# Altium schematic symbol library kmilo17pet-LT_ChargePump.SchLib: 599 symbols (part 24 of 29)
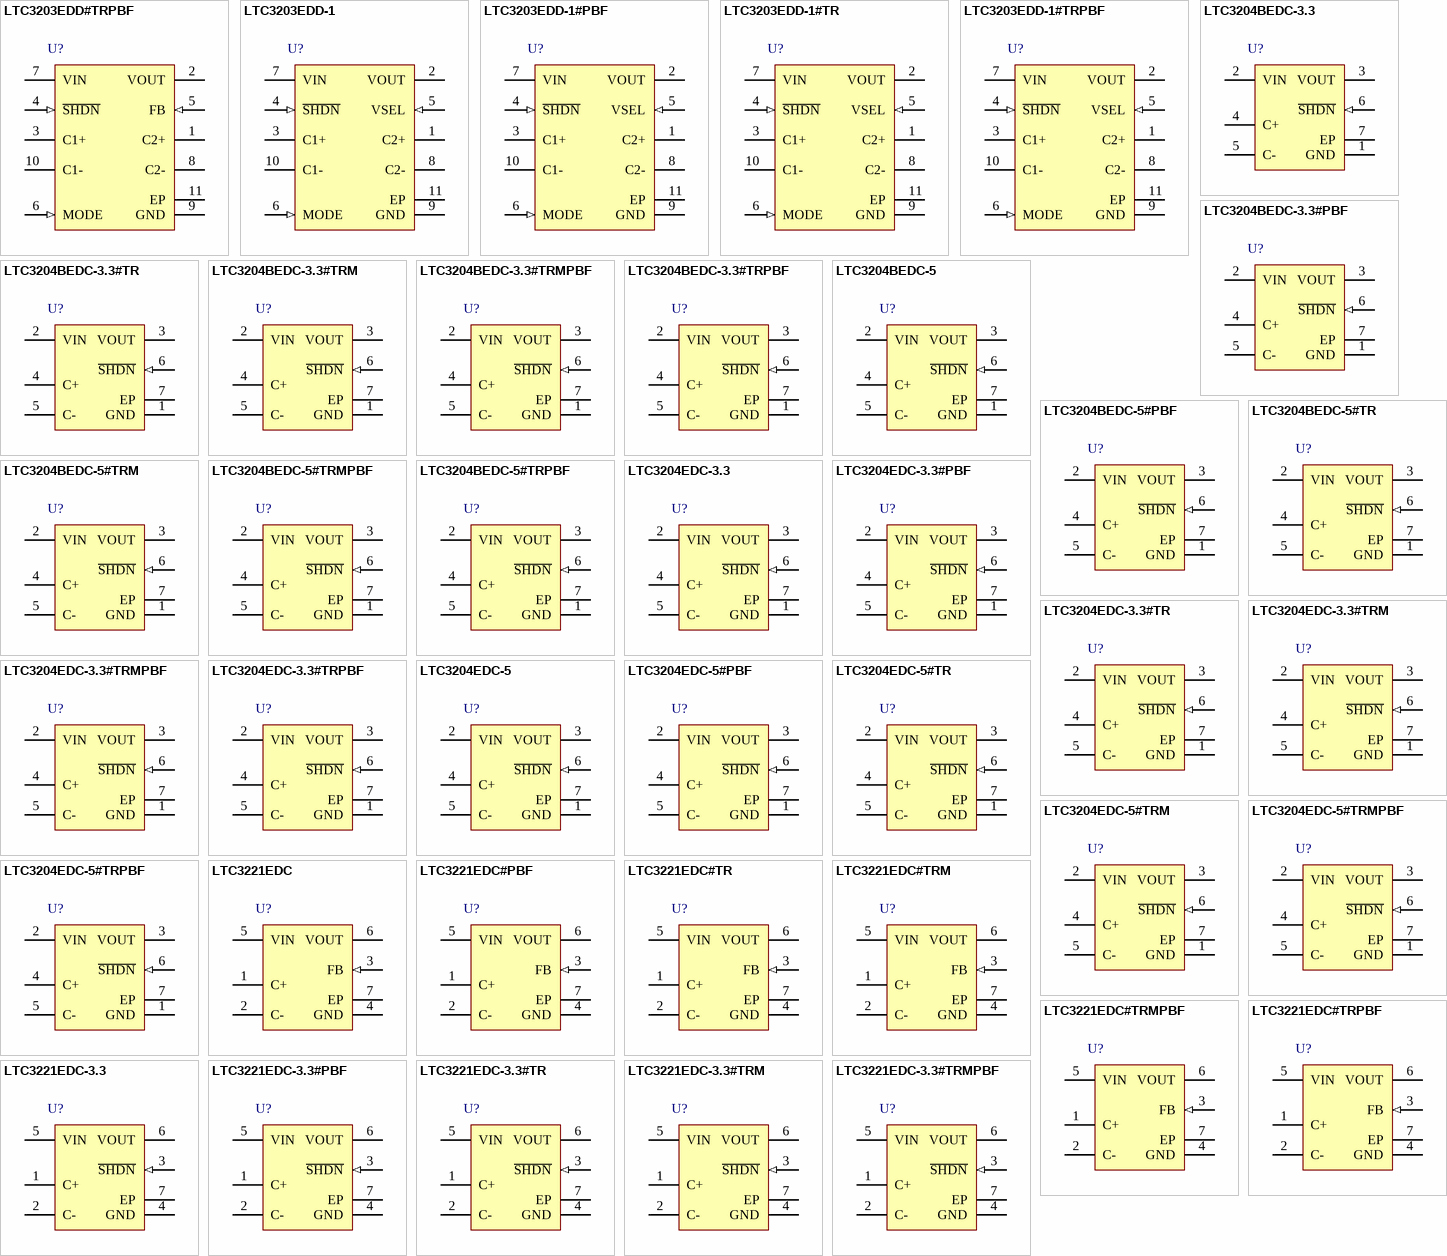
[diagram p39: symbols LTC3203EDD#TRPBF to LTC3221EDC-3.3#TRMPBF]

## LTC3204BEDC-5#TRMPBF
designator U?
Low Noise Regulated Charge Pump, 2.7 to 5.5 V Vin, 5 V Vout, 6-pin SON (DC6-6), -40 to 85 degC, Pb-Free, Mini Tape and Reel; Manufacturer: Linear Technology; PartNumber: LTC3204BEDC-5#TRMPBF; Frequency(kHz): 1200; Isupply(mA): 0.048; Max Iout(mA): 150; Vin Max(V): 5.5; Vin Min(V): 2.7; Voutput: 5V; PackageVersion: Rev. B, 06/2010; PackageReference: DC6-6; PackageDescription: 6-Pin Plastic DFN, Body 2 x 2 mm, Pitch 0.5 mm; Supplier 1: Digi-Key; Supplier Part Number 1: LTC3204BEDC-5#TRMPBFTR-ND; Supplier 2: Digi-Key; Supplier Part Number 2: LTC3204BEDC-5#TRMPBFCT-ND; Supplier 3: Digi-Key; Supplier Part Number 3: LTC3204BEDC-5#TRMPBFDKR-ND; Supplier 4: Farnell; Supplier Part Number 4: 1663892; Supplier 5: Farnell; Supplier Part Number 5: 1663892RL; Supplier 6: Newark; Supplier Part Number 6: 56M7359; Packing: Mini Tape and Reel; RoHS: TRUE; Mounting Technology: Surface Mount; Code_JEDEC: MO-229; ComponentLink1Description: Manufacturer URL; ComponentLink1URL: http://www.linear.com/; ComponentLink2Description: Datasheet; ComponentLink2URL: http://cds.linear.com/docs/en/datasheet/3204fa.pdf; ComponentLink3Description: Package Specification; ComponentLink3URL: http://cds.linear.com/docs/en/packaging/DFN_6_05-08-1703.pdf
footprint LT-DC6-6_V (SON, 6-Leads, Body 2x2mm, Pitch 0.5mm, Thermal Pad 1.42x0.61mm)
pins: 1 GND (power) "Ground.", 2 VIN (power) "Input Supply Voltage.", 3 VOUT (power) "Regulated Output Voltage.", 4 C+ "Flying Capacitor Positive Terminal.", 5 C- "Flying Capacitor Negative Terminal.", 6 ~{SHDN} (in), 7 EP (power) "Ground."

## LTC3204BEDC-5#TRPBF
designator U?
Low Noise Regulated Charge Pump, 2.7 to 5.5 V Vin, 5 V Vout, 6-pin SON (DC6-6), -40 to 85 degC, Pb-Free, Tape and Reel; Manufacturer: Linear Technology; PartNumber: LTC3204BEDC-5#TRPBF; Frequency(kHz): 1200; Isupply(mA): 0.048; Max Iout(mA): 150; Vin Max(V): 5.5; Vin Min(V): 2.7; Voutput: 5V; PackageVersion: Rev. B, 06/2010; PackageReference: DC6-6; PackageDescription: 6-Pin Plastic DFN, Body 2 x 2 mm, Pitch 0.5 mm; Supplier 1: Digi-Key; Supplier Part Number 1: LTC3204BEDC-5#TRPBF-ND; Supplier 2: Newark; Supplier Part Number 2: 56M7360; Packing: Tape and Reel; RoHS: TRUE; Mounting Technology: Surface Mount; Code_JEDEC: MO-229; ComponentLink1Description: Manufacturer URL; ComponentLink1URL: http://www.linear.com/; ComponentLink2Description: Datasheet; ComponentLink2URL: http://cds.linear.com/docs/en/datasheet/3204fa.pdf; ComponentLink3Description: Package Specification; ComponentLink3URL: http://cds.linear.com/docs/en/packaging/DFN_6_05-08-1703.pdf
footprint LT-DC6-6_V (SON, 6-Leads, Body 2x2mm, Pitch 0.5mm, Thermal Pad 1.42x0.61mm)
pins: 1 GND (power) "Ground.", 2 VIN (power) "Input Supply Voltage.", 3 VOUT (power) "Regulated Output Voltage.", 4 C+ "Flying Capacitor Positive Terminal.", 5 C- "Flying Capacitor Negative Terminal.", 6 ~{SHDN} (in), 7 EP (power) "Ground."

## LTC3204EDC-3.3
designator U?
Low Noise Regulated Charge Pump, 1.8 to 4.5 V Vin, 3.3 V Vout, 6-pin SON (DC6-6), -40 to 85 degC; Manufacturer: Linear Technology; PartNumber: LTC3204EDC-3.3; Frequency(kHz): 1200; Isupply(mA): 0.048; Max Iout(mA): 50; Vin Max(V): 4.5; Vin Min(V): 1.8; Voutput: 3.3V; PackageVersion: Rev. B, 06/2010; PackageReference: DC6-6; PackageDescription: 6-Pin Plastic DFN, Body 2 x 2 mm, Pitch 0.5 mm; RoHS: FALSE; Mounting Technology: Surface Mount; Code_JEDEC: MO-229; ComponentLink1Description: Manufacturer URL; ComponentLink1URL: http://www.linear.com/; ComponentLink2Description: Datasheet; ComponentLink2URL: http://cds.linear.com/docs/en/datasheet/3204fa.pdf; ComponentLink3Description: Package Specification; ComponentLink3URL: http://cds.linear.com/docs/en/packaging/DFN_6_05-08-1703.pdf
footprint LT-DC6-6_V (SON, 6-Leads, Body 2x2mm, Pitch 0.5mm, Thermal Pad 1.42x0.61mm)
pins: 1 GND (power) "Ground.", 2 VIN (power) "Input Supply Voltage.", 3 VOUT (power) "Regulated Output Voltage.", 4 C+ "Flying Capacitor Positive Terminal.", 5 C- "Flying Capacitor Negative Terminal.", 6 ~{SHDN} (in), 7 EP (power) "Ground."

## LTC3204EDC-3.3#PBF
designator U?
Low Noise Regulated Charge Pump, 1.8 to 4.5 V Vin, 3.3 V Vout, 6-pin SON (DC6-6), -40 to 85 degC, Pb-Free; Manufacturer: Linear Technology; PartNumber: LTC3204EDC-3.3#PBF; Frequency(kHz): 1200; Isupply(mA): 0.048; Max Iout(mA): 50; Vin Max(V): 4.5; Vin Min(V): 1.8; Voutput: 3.3V; PackageVersion: Rev. B, 06/2010; PackageReference: DC6-6; PackageDescription: 6-Pin Plastic DFN, Body 2 x 2 mm, Pitch 0.5 mm; Supplier 1: Newark; Supplier Part Number 1: 78T3160; RoHS: TRUE; Mounting Technology: Surface Mount; Code_JEDEC: MO-229; ComponentLink1Description: Manufacturer URL; ComponentLink1URL: http://www.linear.com/; ComponentLink2Description: Datasheet; ComponentLink2URL: http://cds.linear.com/docs/en/datasheet/3204fa.pdf; ComponentLink3Description: Package Specification; ComponentLink3URL: http://cds.linear.com/docs/en/packaging/DFN_6_05-08-1703.pdf
footprint LT-DC6-6_V (SON, 6-Leads, Body 2x2mm, Pitch 0.5mm, Thermal Pad 1.42x0.61mm)
pins: 1 GND (power) "Ground.", 2 VIN (power) "Input Supply Voltage.", 3 VOUT (power) "Regulated Output Voltage.", 4 C+ "Flying Capacitor Positive Terminal.", 5 C- "Flying Capacitor Negative Terminal.", 6 ~{SHDN} (in), 7 EP (power) "Ground."

## LTC3204EDC-3.3#TR
designator U?
Low Noise Regulated Charge Pump, 1.8 to 4.5 V Vin, 3.3 V Vout, 6-pin SON (DC6-6), -40 to 85 degC, Tape and Reel; Manufacturer: Linear Technology; PartNumber: LTC3204EDC-3.3#TR; Frequency(kHz): 1200; Isupply(mA): 0.048; Max Iout(mA): 50; Vin Max(V): 4.5; Vin Min(V): 1.8; Voutput: 3.3V; PackageVersion: Rev. B, 06/2010; PackageReference: DC6-6; PackageDescription: 6-Pin Plastic DFN, Body 2 x 2 mm, Pitch 0.5 mm; Packing: Tape and Reel; RoHS: FALSE; Mounting Technology: Surface Mount; Code_JEDEC: MO-229; ComponentLink1Description: Manufacturer URL; ComponentLink1URL: http://www.linear.com/; ComponentLink2Description: Datasheet; ComponentLink2URL: http://cds.linear.com/docs/en/datasheet/3204fa.pdf; ComponentLink3Description: Package Specification; ComponentLink3URL: http://cds.linear.com/docs/en/packaging/DFN_6_05-08-1703.pdf
footprint LT-DC6-6_V (SON, 6-Leads, Body 2x2mm, Pitch 0.5mm, Thermal Pad 1.42x0.61mm)
pins: 1 GND (power) "Ground.", 2 VIN (power) "Input Supply Voltage.", 3 VOUT (power) "Regulated Output Voltage.", 4 C+ "Flying Capacitor Positive Terminal.", 5 C- "Flying Capacitor Negative Terminal.", 6 ~{SHDN} (in), 7 EP (power) "Ground."

## LTC3204EDC-3.3#TRM
designator U?
Low Noise Regulated Charge Pump, 1.8 to 4.5 V Vin, 3.3 V Vout, 6-pin SON (DC6-6), -40 to 85 degC, Mini Tape and Reel; Manufacturer: Linear Technology; PartNumber: LTC3204EDC-3.3#TRM; Frequency(kHz): 1200; Isupply(mA): 0.048; Max Iout(mA): 50; Vin Max(V): 4.5; Vin Min(V): 1.8; Voutput: 3.3V; PackageVersion: Rev. B, 06/2010; PackageReference: DC6-6; PackageDescription: 6-Pin Plastic DFN, Body 2 x 2 mm, Pitch 0.5 mm; Packing: Mini Tape and Reel; RoHS: FALSE; Mounting Technology: Surface Mount; Code_JEDEC: MO-229; ComponentLink1Description: Manufacturer URL; ComponentLink1URL: http://www.linear.com/; ComponentLink2Description: Datasheet; ComponentLink2URL: http://cds.linear.com/docs/en/datasheet/3204fa.pdf; ComponentLink3Description: Package Specification; ComponentLink3URL: http://cds.linear.com/docs/en/packaging/DFN_6_05-08-1703.pdf
footprint LT-DC6-6_V (SON, 6-Leads, Body 2x2mm, Pitch 0.5mm, Thermal Pad 1.42x0.61mm)
pins: 1 GND (power) "Ground.", 2 VIN (power) "Input Supply Voltage.", 3 VOUT (power) "Regulated Output Voltage.", 4 C+ "Flying Capacitor Positive Terminal.", 5 C- "Flying Capacitor Negative Terminal.", 6 ~{SHDN} (in), 7 EP (power) "Ground."

## LTC3204EDC-3.3#TRMPBF
designator U?
Low Noise Regulated Charge Pump, 1.8 to 4.5 V Vin, 3.3 V Vout, 6-pin SON (DC6-6), -40 to 85 degC, Pb-Free, Mini Tape and Reel; Manufacturer: Linear Technology; PartNumber: LTC3204EDC-3.3#TRMPBF; Frequency(kHz): 1200; Isupply(mA): 0.048; Max Iout(mA): 50; Vin Max(V): 4.5; Vin Min(V): 1.8; Voutput: 3.3V; PackageVersion: Rev. B, 06/2010; PackageReference: DC6-6; PackageDescription: 6-Pin Plastic DFN, Body 2 x 2 mm, Pitch 0.5 mm; Supplier 1: Digi-Key; Supplier Part Number 1: LTC3204EDC-3.3#TRMPBF-ND; Packing: Mini Tape and Reel; RoHS: TRUE; Mounting Technology: Surface Mount; Code_JEDEC: MO-229; ComponentLink1Description: Manufacturer URL; ComponentLink1URL: http://www.linear.com/; ComponentLink2Description: Datasheet; ComponentLink2URL: http://cds.linear.com/docs/en/datasheet/3204fa.pdf; ComponentLink3Description: Package Specification; ComponentLink3URL: http://cds.linear.com/docs/en/packaging/DFN_6_05-08-1703.pdf
footprint LT-DC6-6_V (SON, 6-Leads, Body 2x2mm, Pitch 0.5mm, Thermal Pad 1.42x0.61mm)
pins: 1 GND (power) "Ground.", 2 VIN (power) "Input Supply Voltage.", 3 VOUT (power) "Regulated Output Voltage.", 4 C+ "Flying Capacitor Positive Terminal.", 5 C- "Flying Capacitor Negative Terminal.", 6 ~{SHDN} (in), 7 EP (power) "Ground."

## LTC3204EDC-3.3#TRPBF
designator U?
Low Noise Regulated Charge Pump, 1.8 to 4.5 V Vin, 3.3 V Vout, 6-pin SON (DC6-6), -40 to 85 degC, Pb-Free, Tape and Reel; Manufacturer: Linear Technology; PartNumber: LTC3204EDC-3.3#TRPBF; Frequency(kHz): 1200; Isupply(mA): 0.048; Max Iout(mA): 50; Vin Max(V): 4.5; Vin Min(V): 1.8; Voutput: 3.3V; PackageVersion: Rev. B, 06/2010; PackageReference: DC6-6; PackageDescription: 6-Pin Plastic DFN, Body 2 x 2 mm, Pitch 0.5 mm; Supplier 1: Digi-Key; Supplier Part Number 1: LTC3204EDC-3.3#TRPBF-ND; Packing: Tape and Reel; RoHS: TRUE; Mounting Technology: Surface Mount; Code_JEDEC: MO-229; ComponentLink1Description: Manufacturer URL; ComponentLink1URL: http://www.linear.com/; ComponentLink2Description: Datasheet; ComponentLink2URL: http://cds.linear.com/docs/en/datasheet/3204fa.pdf; ComponentLink3Description: Package Specification; ComponentLink3URL: http://cds.linear.com/docs/en/packaging/DFN_6_05-08-1703.pdf
footprint LT-DC6-6_V (SON, 6-Leads, Body 2x2mm, Pitch 0.5mm, Thermal Pad 1.42x0.61mm)
pins: 1 GND (power) "Ground.", 2 VIN (power) "Input Supply Voltage.", 3 VOUT (power) "Regulated Output Voltage.", 4 C+ "Flying Capacitor Positive Terminal.", 5 C- "Flying Capacitor Negative Terminal.", 6 ~{SHDN} (in), 7 EP (power) "Ground."

## LTC3204EDC-5
designator U?
Low Noise Regulated Charge Pump, 2.7 to 5.5 V Vin, 5 V Vout, 6-pin SON (DC6-6), -40 to 85 degC; Manufacturer: Linear Technology; PartNumber: LTC3204EDC-5; Frequency(kHz): 1200; Isupply(mA): 0.048; Max Iout(mA): 150; Vin Max(V): 5.5; Vin Min(V): 2.7; Voutput: 5V; PackageVersion: Rev. B, 06/2010; PackageReference: DC6-6; PackageDescription: 6-Pin Plastic DFN, Body 2 x 2 mm, Pitch 0.5 mm; RoHS: FALSE; Mounting Technology: Surface Mount; Code_JEDEC: MO-229; ComponentLink1Description: Manufacturer URL; ComponentLink1URL: http://www.linear.com/; ComponentLink2Description: Datasheet; ComponentLink2URL: http://cds.linear.com/docs/en/datasheet/3204fa.pdf; ComponentLink3Description: Package Specification; ComponentLink3URL: http://cds.linear.com/docs/en/packaging/DFN_6_05-08-1703.pdf
footprint LT-DC6-6_V (SON, 6-Leads, Body 2x2mm, Pitch 0.5mm, Thermal Pad 1.42x0.61mm)
pins: 1 GND (power) "Ground.", 2 VIN (power) "Input Supply Voltage.", 3 VOUT (power) "Regulated Output Voltage.", 4 C+ "Flying Capacitor Positive Terminal.", 5 C- "Flying Capacitor Negative Terminal.", 6 ~{SHDN} (in), 7 EP (power) "Ground."

## LTC3204EDC-5#PBF
designator U?
Low Noise Regulated Charge Pump, 2.7 to 5.5 V Vin, 5 V Vout, 6-pin SON (DC6-6), -40 to 85 degC, Pb-Free; Manufacturer: Linear Technology; PartNumber: LTC3204EDC-5#PBF; Frequency(kHz): 1200; Isupply(mA): 0.048; Max Iout(mA): 150; Vin Max(V): 5.5; Vin Min(V): 2.7; Voutput: 5V; PackageVersion: Rev. B, 06/2010; PackageReference: DC6-6; PackageDescription: 6-Pin Plastic DFN, Body 2 x 2 mm, Pitch 0.5 mm; Supplier 1: Farnell; Supplier Part Number 1: 2295023; Supplier 2: Newark; Supplier Part Number 2: 78T3161; RoHS: TRUE; Mounting Technology: Surface Mount; Code_JEDEC: MO-229; ComponentLink1Description: Manufacturer URL; ComponentLink1URL: http://www.linear.com/; ComponentLink2Description: Datasheet; ComponentLink2URL: http://cds.linear.com/docs/en/datasheet/3204fa.pdf; ComponentLink3Description: Package Specification; ComponentLink3URL: http://cds.linear.com/docs/en/packaging/DFN_6_05-08-1703.pdf
footprint LT-DC6-6_V (SON, 6-Leads, Body 2x2mm, Pitch 0.5mm, Thermal Pad 1.42x0.61mm)
pins: 1 GND (power) "Ground.", 2 VIN (power) "Input Supply Voltage.", 3 VOUT (power) "Regulated Output Voltage.", 4 C+ "Flying Capacitor Positive Terminal.", 5 C- "Flying Capacitor Negative Terminal.", 6 ~{SHDN} (in), 7 EP (power) "Ground."

## LTC3204EDC-5#TR
designator U?
Low Noise Regulated Charge Pump, 2.7 to 5.5 V Vin, 5 V Vout, 6-pin SON (DC6-6), -40 to 85 degC, Tape and Reel; Manufacturer: Linear Technology; PartNumber: LTC3204EDC-5#TR; Frequency(kHz): 1200; Isupply(mA): 0.048; Max Iout(mA): 150; Vin Max(V): 5.5; Vin Min(V): 2.7; Voutput: 5V; PackageVersion: Rev. B, 06/2010; PackageReference: DC6-6; PackageDescription: 6-Pin Plastic DFN, Body 2 x 2 mm, Pitch 0.5 mm; Packing: Tape and Reel; RoHS: FALSE; Mounting Technology: Surface Mount; Code_JEDEC: MO-229; ComponentLink1Description: Manufacturer URL; ComponentLink1URL: http://www.linear.com/; ComponentLink2Description: Datasheet; ComponentLink2URL: http://cds.linear.com/docs/en/datasheet/3204fa.pdf; ComponentLink3Description: Package Specification; ComponentLink3URL: http://cds.linear.com/docs/en/packaging/DFN_6_05-08-1703.pdf
footprint LT-DC6-6_V (SON, 6-Leads, Body 2x2mm, Pitch 0.5mm, Thermal Pad 1.42x0.61mm)
pins: 1 GND (power) "Ground.", 2 VIN (power) "Input Supply Voltage.", 3 VOUT (power) "Regulated Output Voltage.", 4 C+ "Flying Capacitor Positive Terminal.", 5 C- "Flying Capacitor Negative Terminal.", 6 ~{SHDN} (in), 7 EP (power) "Ground."

## LTC3204EDC-5#TRM
designator U?
Low Noise Regulated Charge Pump, 2.7 to 5.5 V Vin, 5 V Vout, 6-pin SON (DC6-6), -40 to 85 degC, Mini Tape and Reel; Manufacturer: Linear Technology; PartNumber: LTC3204EDC-5#TRM; Frequency(kHz): 1200; Isupply(mA): 0.048; Max Iout(mA): 150; Vin Max(V): 5.5; Vin Min(V): 2.7; Voutput: 5V; PackageVersion: Rev. B, 06/2010; PackageReference: DC6-6; PackageDescription: 6-Pin Plastic DFN, Body 2 x 2 mm, Pitch 0.5 mm; Packing: Mini Tape and Reel; RoHS: FALSE; Mounting Technology: Surface Mount; Code_JEDEC: MO-229; ComponentLink1Description: Manufacturer URL; ComponentLink1URL: http://www.linear.com/; ComponentLink2Description: Datasheet; ComponentLink2URL: http://cds.linear.com/docs/en/datasheet/3204fa.pdf; ComponentLink3Description: Package Specification; ComponentLink3URL: http://cds.linear.com/docs/en/packaging/DFN_6_05-08-1703.pdf
footprint LT-DC6-6_V (SON, 6-Leads, Body 2x2mm, Pitch 0.5mm, Thermal Pad 1.42x0.61mm)
pins: 1 GND (power) "Ground.", 2 VIN (power) "Input Supply Voltage.", 3 VOUT (power) "Regulated Output Voltage.", 4 C+ "Flying Capacitor Positive Terminal.", 5 C- "Flying Capacitor Negative Terminal.", 6 ~{SHDN} (in), 7 EP (power) "Ground."

## LTC3204EDC-5#TRMPBF
designator U?
Low Noise Regulated Charge Pump, 2.7 to 5.5 V Vin, 5 V Vout, 6-pin SON (DC6-6), -40 to 85 degC, Pb-Free, Mini Tape and Reel; Manufacturer: Linear Technology; PartNumber: LTC3204EDC-5#TRMPBF; Frequency(kHz): 1200; Isupply(mA): 0.048; Max Iout(mA): 150; Vin Max(V): 5.5; Vin Min(V): 2.7; Voutput: 5V; PackageVersion: Rev. B, 06/2010; PackageReference: DC6-6; PackageDescription: 6-Pin Plastic DFN, Body 2 x 2 mm, Pitch 0.5 mm; Supplier 1: Digi-Key; Supplier Part Number 1: LTC3204EDC-5#TRMPBFTR-ND; Supplier 2: Digi-Key; Supplier Part Number 2: LTC3204EDC-5#TRMPBFCT-ND; Supplier 3: Digi-Key; Supplier Part Number 3: LTC3204EDC-5#TRMPBFDKR-ND; Packing: Mini Tape and Reel; RoHS: TRUE; Mounting Technology: Surface Mount; Code_JEDEC: MO-229; ComponentLink1Description: Manufacturer URL; ComponentLink1URL: http://www.linear.com/; ComponentLink2Description: Datasheet; ComponentLink2URL: http://cds.linear.com/docs/en/datasheet/3204fa.pdf; ComponentLink3Description: Package Specification; ComponentLink3URL: http://cds.linear.com/docs/en/packaging/DFN_6_05-08-1703.pdf
footprint LT-DC6-6_V (SON, 6-Leads, Body 2x2mm, Pitch 0.5mm, Thermal Pad 1.42x0.61mm)
pins: 1 GND (power) "Ground.", 2 VIN (power) "Input Supply Voltage.", 3 VOUT (power) "Regulated Output Voltage.", 4 C+ "Flying Capacitor Positive Terminal.", 5 C- "Flying Capacitor Negative Terminal.", 6 ~{SHDN} (in), 7 EP (power) "Ground."

## LTC3204EDC-5#TRPBF
designator U?
Low Noise Regulated Charge Pump, 2.7 to 5.5 V Vin, 5 V Vout, 6-pin SON (DC6-6), -40 to 85 degC, Pb-Free, Tape and Reel; Manufacturer: Linear Technology; PartNumber: LTC3204EDC-5#TRPBF; Frequency(kHz): 1200; Isupply(mA): 0.048; Max Iout(mA): 150; Vin Max(V): 5.5; Vin Min(V): 2.7; Voutput: 5V; PackageVersion: Rev. B, 06/2010; PackageReference: DC6-6; PackageDescription: 6-Pin Plastic DFN, Body 2 x 2 mm, Pitch 0.5 mm; Supplier 1: Digi-Key; Supplier Part Number 1: LTC3204EDC-5#TRPBF-ND; Packing: Tape and Reel; RoHS: TRUE; Mounting Technology: Surface Mount; Code_JEDEC: MO-229; ComponentLink1Description: Manufacturer URL; ComponentLink1URL: http://www.linear.com/; ComponentLink2Description: Datasheet; ComponentLink2URL: http://cds.linear.com/docs/en/datasheet/3204fa.pdf; ComponentLink3Description: Package Specification; ComponentLink3URL: http://cds.linear.com/docs/en/packaging/DFN_6_05-08-1703.pdf
footprint LT-DC6-6_V (SON, 6-Leads, Body 2x2mm, Pitch 0.5mm, Thermal Pad 1.42x0.61mm)
pins: 1 GND (power) "Ground.", 2 VIN (power) "Input Supply Voltage.", 3 VOUT (power) "Regulated Output Voltage.", 4 C+ "Flying Capacitor Positive Terminal.", 5 C- "Flying Capacitor Negative Terminal.", 6 ~{SHDN} (in), 7 EP (power) "Ground."

## LTC3221EDC
designator U?
Micropower, Regulated Charge Pump, 1.8 to 5.5 V Vin, Adjustable Vout, 6-pin SON (DC6-6), -40 to 85 degC; Manufacturer: Linear Technology; PartNumber: LTC3221EDC; Frequency(kHz): 600; Isupply(mA): 0.005; Max Iout(mA): 60; Vin Max(V): 5.5; Vin Min(V): 1.8; Voutput: Adj; PackageVersion: Rev. B, 06/2010; PackageReference: DC6-6; PackageDescription: 6-Pin Plastic DFN, Body 2 x 2 mm, Pitch 0.5 mm; RoHS: FALSE; Mounting Technology: Surface Mount; Code_JEDEC: MO-229; ComponentLink1Description: Manufacturer URL; ComponentLink1URL: http://www.linear.com/; ComponentLink2Description: Datasheet; ComponentLink2URL: http://cds.linear.com/docs/en/datasheet/3221f.pdf; ComponentLink3Description: Package Specification; ComponentLink3URL: http://cds.linear.com/docs/en/packaging/DFN_6_05-08-1703.pdf
footprint LT-DC6-6_V (SON, 6-Leads, Body 2x2mm, Pitch 0.5mm, Thermal Pad 1.42x0.61mm)
pins: 1 C+ "Flying Capacitor Positive Terminal.", 2 C- "Flying Capacitor Negative Terminal.", 3 FB (in) "Feedback. The voltage on this pin is compared to the internal reference voltage (1.23V) by the error comparator to keep the output in regulation. An external resistor divider is required between VOUT and FB to program the (See Datasheet)", 4 GND (power) "Ground. Should be tied to a ground plane for best performance.", 5 VIN (power) "Input Supply Voltage. VIN should be bypassed with a 2.2uF low ESR capacitor.", 6 VOUT (power) "Regulated Output Voltage. For best performance, VOUT should be bypassed with a 2.2uF or higher low ESR capacitor as close as possible to the pin.", 7 EP (power) "Ground. The exposed pad must be soldered to PCB ground to provide electrical contact and optimum thermal performance."

## LTC3221EDC#PBF
designator U?
Micropower, Regulated Charge Pump, 1.8 to 5.5 V Vin, Adjustable Vout, 6-pin SON (DC6-6), -40 to 85 degC, Pb-Free; Manufacturer: Linear Technology; PartNumber: LTC3221EDC#PBF; Frequency(kHz): 600; Isupply(mA): 0.005; Max Iout(mA): 60; Vin Max(V): 5.5; Vin Min(V): 1.8; Voutput: Adj; PackageVersion: Rev. B, 06/2010; PackageReference: DC6-6; PackageDescription: 6-Pin Plastic DFN, Body 2 x 2 mm, Pitch 0.5 mm; Supplier 1: Newark; Supplier Part Number 1: 58T8247; RoHS: TRUE; Mounting Technology: Surface Mount; Code_JEDEC: MO-229; ComponentLink1Description: Manufacturer URL; ComponentLink1URL: http://www.linear.com/; ComponentLink2Description: Datasheet; ComponentLink2URL: http://cds.linear.com/docs/en/datasheet/3221f.pdf; ComponentLink3Description: Package Specification; ComponentLink3URL: http://cds.linear.com/docs/en/packaging/DFN_6_05-08-1703.pdf
footprint LT-DC6-6_V (SON, 6-Leads, Body 2x2mm, Pitch 0.5mm, Thermal Pad 1.42x0.61mm)
pins: 1 C+ "Flying Capacitor Positive Terminal.", 2 C- "Flying Capacitor Negative Terminal.", 3 FB (in) "Feedback. The voltage on this pin is compared to the internal reference voltage (1.23V) by the error comparator to keep the output in regulation. An external resistor divider is required between VOUT and FB to program the (See Datasheet)", 4 GND (power) "Ground. Should be tied to a ground plane for best performance.", 5 VIN (power) "Input Supply Voltage. VIN should be bypassed with a 2.2uF low ESR capacitor.", 6 VOUT (power) "Regulated Output Voltage. For best performance, VOUT should be bypassed with a 2.2uF or higher low ESR capacitor as close as possible to the pin.", 7 EP (power) "Ground. The exposed pad must be soldered to PCB ground to provide electrical contact and optimum thermal performance."

## LTC3221EDC#TR
designator U?
Micropower, Regulated Charge Pump, 1.8 to 5.5 V Vin, Adjustable Vout, 6-pin SON (DC6-6), -40 to 85 degC, Tape and Reel; Manufacturer: Linear Technology; PartNumber: LTC3221EDC#TR; Frequency(kHz): 600; Isupply(mA): 0.005; Max Iout(mA): 60; Vin Max(V): 5.5; Vin Min(V): 1.8; Voutput: Adj; PackageVersion: Rev. B, 06/2010; PackageReference: DC6-6; PackageDescription: 6-Pin Plastic DFN, Body 2 x 2 mm, Pitch 0.5 mm; Packing: Tape and Reel; RoHS: FALSE; Mounting Technology: Surface Mount; Code_JEDEC: MO-229; ComponentLink1Description: Manufacturer URL; ComponentLink1URL: http://www.linear.com/; ComponentLink2Description: Datasheet; ComponentLink2URL: http://cds.linear.com/docs/en/datasheet/3221f.pdf; ComponentLink3Description: Package Specification; ComponentLink3URL: http://cds.linear.com/docs/en/packaging/DFN_6_05-08-1703.pdf
footprint LT-DC6-6_V (SON, 6-Leads, Body 2x2mm, Pitch 0.5mm, Thermal Pad 1.42x0.61mm)
pins: 1 C+ "Flying Capacitor Positive Terminal.", 2 C- "Flying Capacitor Negative Terminal.", 3 FB (in) "Feedback. The voltage on this pin is compared to the internal reference voltage (1.23V) by the error comparator to keep the output in regulation. An external resistor divider is required between VOUT and FB to program the (See Datasheet)", 4 GND (power) "Ground. Should be tied to a ground plane for best performance.", 5 VIN (power) "Input Supply Voltage. VIN should be bypassed with a 2.2uF low ESR capacitor.", 6 VOUT (power) "Regulated Output Voltage. For best performance, VOUT should be bypassed with a 2.2uF or higher low ESR capacitor as close as possible to the pin.", 7 EP (power) "Ground. The exposed pad must be soldered to PCB ground to provide electrical contact and optimum thermal performance."

## LTC3221EDC#TRM
designator U?
Micropower, Regulated Charge Pump, 1.8 to 5.5 V Vin, Adjustable Vout, 6-pin SON (DC6-6), -40 to 85 degC, Mini Tape and Reel; Manufacturer: Linear Technology; PartNumber: LTC3221EDC#TRM; Frequency(kHz): 600; Isupply(mA): 0.005; Max Iout(mA): 60; Vin Max(V): 5.5; Vin Min(V): 1.8; Voutput: Adj; PackageVersion: Rev. B, 06/2010; PackageReference: DC6-6; PackageDescription: 6-Pin Plastic DFN, Body 2 x 2 mm, Pitch 0.5 mm; Packing: Mini Tape and Reel; RoHS: FALSE; Mounting Technology: Surface Mount; Code_JEDEC: MO-229; ComponentLink1Description: Manufacturer URL; ComponentLink1URL: http://www.linear.com/; ComponentLink2Description: Datasheet; ComponentLink2URL: http://cds.linear.com/docs/en/datasheet/3221f.pdf; ComponentLink3Description: Package Specification; ComponentLink3URL: http://cds.linear.com/docs/en/packaging/DFN_6_05-08-1703.pdf
footprint LT-DC6-6_V (SON, 6-Leads, Body 2x2mm, Pitch 0.5mm, Thermal Pad 1.42x0.61mm)
pins: 1 C+ "Flying Capacitor Positive Terminal.", 2 C- "Flying Capacitor Negative Terminal.", 3 FB (in) "Feedback. The voltage on this pin is compared to the internal reference voltage (1.23V) by the error comparator to keep the output in regulation. An external resistor divider is required between VOUT and FB to program the (See Datasheet)", 4 GND (power) "Ground. Should be tied to a ground plane for best performance.", 5 VIN (power) "Input Supply Voltage. VIN should be bypassed with a 2.2uF low ESR capacitor.", 6 VOUT (power) "Regulated Output Voltage. For best performance, VOUT should be bypassed with a 2.2uF or higher low ESR capacitor as close as possible to the pin.", 7 EP (power) "Ground. The exposed pad must be soldered to PCB ground to provide electrical contact and optimum thermal performance."

## LTC3221EDC#TRMPBF
designator U?
Micropower, Regulated Charge Pump, 1.8 to 5.5 V Vin, Adjustable Vout, 6-pin SON (DC6-6), -40 to 85 degC, Pb-Free, Mini Tape and Reel; Manufacturer: Linear Technology; PartNumber: LTC3221EDC#TRMPBF; Frequency(kHz): 600; Isupply(mA): 0.005; Max Iout(mA): 60; Vin Max(V): 5.5; Vin Min(V): 1.8; Voutput: Adj; PackageVersion: Rev. B, 06/2010; PackageReference: DC6-6; PackageDescription: 6-Pin Plastic DFN, Body 2 x 2 mm, Pitch 0.5 mm; Supplier 1: Digi-Key; Supplier Part Number 1: LTC3221EDC#TRMPBFTR-ND; Supplier 2: Digi-Key; Supplier Part Number 2: LTC3221EDC#TRMPBFCT-ND; Supplier 3: Digi-Key; Supplier Part Number 3: LTC3221EDC#TRMPBFDKR-ND; Supplier 4: Newark; Supplier Part Number 4: 56M7446; Packing: Mini Tape and Reel; RoHS: TRUE; Mounting Technology: Surface Mount; Code_JEDEC: MO-229; ComponentLink1Description: Manufacturer URL; ComponentLink1URL: http://www.linear.com/; ComponentLink2Description: Datasheet; ComponentLink2URL: http://cds.linear.com/docs/en/datasheet/3221f.pdf; ComponentLink3Description: Package Specification; ComponentLink3URL: http://cds.linear.com/docs/en/packaging/DFN_6_05-08-1703.pdf
footprint LT-DC6-6_V (SON, 6-Leads, Body 2x2mm, Pitch 0.5mm, Thermal Pad 1.42x0.61mm)
pins: 1 C+ "Flying Capacitor Positive Terminal.", 2 C- "Flying Capacitor Negative Terminal.", 3 FB (in) "Feedback. The voltage on this pin is compared to the internal reference voltage (1.23V) by the error comparator to keep the output in regulation. An external resistor divider is required between VOUT and FB to program the (See Datasheet)", 4 GND (power) "Ground. Should be tied to a ground plane for best performance.", 5 VIN (power) "Input Supply Voltage. VIN should be bypassed with a 2.2uF low ESR capacitor.", 6 VOUT (power) "Regulated Output Voltage. For best performance, VOUT should be bypassed with a 2.2uF or higher low ESR capacitor as close as possible to the pin.", 7 EP (power) "Ground. The exposed pad must be soldered to PCB ground to provide electrical contact and optimum thermal performance."

## LTC3221EDC#TRPBF
designator U?
Micropower, Regulated Charge Pump, 1.8 to 5.5 V Vin, Adjustable Vout, 6-pin SON (DC6-6), -40 to 85 degC, Pb-Free, Tape and Reel; Manufacturer: Linear Technology; PartNumber: LTC3221EDC#TRPBF; Frequency(kHz): 600; Isupply(mA): 0.005; Max Iout(mA): 60; Vin Max(V): 5.5; Vin Min(V): 1.8; Voutput: Adj; PackageVersion: Rev. B, 06/2010; PackageReference: DC6-6; PackageDescription: 6-Pin Plastic DFN, Body 2 x 2 mm, Pitch 0.5 mm; Supplier 1: Digi-Key; Supplier Part Number 1: LTC3221EDC#TRPBF-ND; Supplier 2: Newark; Supplier Part Number 2: 56M7447; Packing: Tape and Reel; RoHS: TRUE; Mounting Technology: Surface Mount; Code_JEDEC: MO-229; ComponentLink1Description: Manufacturer URL; ComponentLink1URL: http://www.linear.com/; ComponentLink2Description: Datasheet; ComponentLink2URL: http://cds.linear.com/docs/en/datasheet/3221f.pdf; ComponentLink3Description: Package Specification; ComponentLink3URL: http://cds.linear.com/docs/en/packaging/DFN_6_05-08-1703.pdf
footprint LT-DC6-6_V (SON, 6-Leads, Body 2x2mm, Pitch 0.5mm, Thermal Pad 1.42x0.61mm)
pins: 1 C+ "Flying Capacitor Positive Terminal.", 2 C- "Flying Capacitor Negative Terminal.", 3 FB (in) "Feedback. The voltage on this pin is compared to the internal reference voltage (1.23V) by the error comparator to keep the output in regulation. An external resistor divider is required between VOUT and FB to program the (See Datasheet)", 4 GND (power) "Ground. Should be tied to a ground plane for best performance.", 5 VIN (power) "Input Supply Voltage. VIN should be bypassed with a 2.2uF low ESR capacitor.", 6 VOUT (power) "Regulated Output Voltage. For best performance, VOUT should be bypassed with a 2.2uF or higher low ESR capacitor as close as possible to the pin.", 7 EP (power) "Ground. The exposed pad must be soldered to PCB ground to provide electrical contact and optimum thermal performance."

## LTC3221EDC-3.3
designator U?
Micropower, Regulated Charge Pump, 1.8 to 4.4 V Vin, 3.3 V Vout, 6-pin SON (DC6-6), -40 to 85 degC; Manufacturer: Linear Technology; PartNumber: LTC3221EDC-3.3; Frequency(kHz): 600; Isupply(mA): 0.008; Max Iout(mA): 60; Vin Max(V): 4.4; Vin Min(V): 1.8; Voutput: 3.3V; PackageVersion: Rev. B, 06/2010; PackageReference: DC6-6; PackageDescription: 6-Pin Plastic DFN, Body 2 x 2 mm, Pitch 0.5 mm; RoHS: FALSE; Mounting Technology: Surface Mount; Code_JEDEC: MO-229; ComponentLink1Description: Manufacturer URL; ComponentLink1URL: http://www.linear.com/; ComponentLink2Description: Datasheet; ComponentLink2URL: http://cds.linear.com/docs/en/datasheet/3221f.pdf; ComponentLink3Description: Package Specification; ComponentLink3URL: http://cds.linear.com/docs/en/packaging/DFN_6_05-08-1703.pdf
footprint LT-DC6-6_V (SON, 6-Leads, Body 2x2mm, Pitch 0.5mm, Thermal Pad 1.42x0.61mm)
pins: 1 C+ "Flying Capacitor Positive Terminal.", 2 C- "Flying Capacitor Negative Terminal.", 3 ~{SHDN} (in) "Active Low Shutdown Input. A low on S\H\D\N\ disables the LTC3221-3.3/ LTC3221-5. S\H\D\N\ must not be allowed to float.", 4 GND (power) "Ground. Should be tied to a ground plane for best performance.", 5 VIN (power) "Input Supply Voltage. VIN should be bypassed with a 2.2uF low ESR capacitor.", 6 VOUT (power) "Regulated Output Voltage. For best performance, VOUT should be bypassed with a 2.2uF or higher low ESR capacitor as close as possible to the pin.", 7 EP (power) "Ground. The exposed pad must be soldered to PCB ground to provide electrical contact and optimum thermal performance."

## LTC3221EDC-3.3#PBF
designator U?
Micropower, Regulated Charge Pump, 1.8 to 4.4 V Vin, 3.3 V Vout, 6-pin SON (DC6-6), -40 to 85 degC, Pb-Free; Manufacturer: Linear Technology; PartNumber: LTC3221EDC-3.3#PBF; Frequency(kHz): 600; Isupply(mA): 0.008; Max Iout(mA): 60; Vin Max(V): 4.4; Vin Min(V): 1.8; Voutput: 3.3V; PackageVersion: Rev. B, 06/2010; PackageReference: DC6-6; PackageDescription: 6-Pin Plastic DFN, Body 2 x 2 mm, Pitch 0.5 mm; Supplier 1: Newark; Supplier Part Number 1: 78T3164; RoHS: TRUE; Mounting Technology: Surface Mount; Code_JEDEC: MO-229; ComponentLink1Description: Manufacturer URL; ComponentLink1URL: http://www.linear.com/; ComponentLink2Description: Datasheet; ComponentLink2URL: http://cds.linear.com/docs/en/datasheet/3221f.pdf; ComponentLink3Description: Package Specification; ComponentLink3URL: http://cds.linear.com/docs/en/packaging/DFN_6_05-08-1703.pdf
footprint LT-DC6-6_V (SON, 6-Leads, Body 2x2mm, Pitch 0.5mm, Thermal Pad 1.42x0.61mm)
pins: 1 C+ "Flying Capacitor Positive Terminal.", 2 C- "Flying Capacitor Negative Terminal.", 3 ~{SHDN} (in) "Active Low Shutdown Input. A low on S\H\D\N\ disables the LTC3221-3.3/ LTC3221-5. S\H\D\N\ must not be allowed to float.", 4 GND (power) "Ground. Should be tied to a ground plane for best performance.", 5 VIN (power) "Input Supply Voltage. VIN should be bypassed with a 2.2uF low ESR capacitor.", 6 VOUT (power) "Regulated Output Voltage. For best performance, VOUT should be bypassed with a 2.2uF or higher low ESR capacitor as close as possible to the pin.", 7 EP (power) "Ground. The exposed pad must be soldered to PCB ground to provide electrical contact and optimum thermal performance."

## LTC3221EDC-3.3#TR
designator U?
Micropower, Regulated Charge Pump, 1.8 to 4.4 V Vin, 3.3 V Vout, 6-pin SON (DC6-6), -40 to 85 degC, Tape and Reel; Manufacturer: Linear Technology; PartNumber: LTC3221EDC-3.3#TR; Frequency(kHz): 600; Isupply(mA): 0.008; Max Iout(mA): 60; Vin Max(V): 4.4; Vin Min(V): 1.8; Voutput: 3.3V; PackageVersion: Rev. B, 06/2010; PackageReference: DC6-6; PackageDescription: 6-Pin Plastic DFN, Body 2 x 2 mm, Pitch 0.5 mm; Packing: Tape and Reel; RoHS: FALSE; Mounting Technology: Surface Mount; Code_JEDEC: MO-229; ComponentLink1Description: Manufacturer URL; ComponentLink1URL: http://www.linear.com/; ComponentLink2Description: Datasheet; ComponentLink2URL: http://cds.linear.com/docs/en/datasheet/3221f.pdf; ComponentLink3Description: Package Specification; ComponentLink3URL: http://cds.linear.com/docs/en/packaging/DFN_6_05-08-1703.pdf
footprint LT-DC6-6_V (SON, 6-Leads, Body 2x2mm, Pitch 0.5mm, Thermal Pad 1.42x0.61mm)
pins: 1 C+ "Flying Capacitor Positive Terminal.", 2 C- "Flying Capacitor Negative Terminal.", 3 ~{SHDN} (in) "Active Low Shutdown Input. A low on S\H\D\N\ disables the LTC3221-3.3/ LTC3221-5. S\H\D\N\ must not be allowed to float.", 4 GND (power) "Ground. Should be tied to a ground plane for best performance.", 5 VIN (power) "Input Supply Voltage. VIN should be bypassed with a 2.2uF low ESR capacitor.", 6 VOUT (power) "Regulated Output Voltage. For best performance, VOUT should be bypassed with a 2.2uF or higher low ESR capacitor as close as possible to the pin.", 7 EP (power) "Ground. The exposed pad must be soldered to PCB ground to provide electrical contact and optimum thermal performance."

## LTC3221EDC-3.3#TRM
designator U?
Micropower, Regulated Charge Pump, 1.8 to 4.4 V Vin, 3.3 V Vout, 6-pin SON (DC6-6), -40 to 85 degC, Mini Tape and Reel; Manufacturer: Linear Technology; PartNumber: LTC3221EDC-3.3#TRM; Frequency(kHz): 600; Isupply(mA): 0.008; Max Iout(mA): 60; Vin Max(V): 4.4; Vin Min(V): 1.8; Voutput: 3.3V; PackageVersion: Rev. B, 06/2010; PackageReference: DC6-6; PackageDescription: 6-Pin Plastic DFN, Body 2 x 2 mm, Pitch 0.5 mm; Packing: Mini Tape and Reel; RoHS: FALSE; Mounting Technology: Surface Mount; Code_JEDEC: MO-229; ComponentLink1Description: Manufacturer URL; ComponentLink1URL: http://www.linear.com/; ComponentLink2Description: Datasheet; ComponentLink2URL: http://cds.linear.com/docs/en/datasheet/3221f.pdf; ComponentLink3Description: Package Specification; ComponentLink3URL: http://cds.linear.com/docs/en/packaging/DFN_6_05-08-1703.pdf
footprint LT-DC6-6_V (SON, 6-Leads, Body 2x2mm, Pitch 0.5mm, Thermal Pad 1.42x0.61mm)
pins: 1 C+ "Flying Capacitor Positive Terminal.", 2 C- "Flying Capacitor Negative Terminal.", 3 ~{SHDN} (in) "Active Low Shutdown Input. A low on S\H\D\N\ disables the LTC3221-3.3/ LTC3221-5. S\H\D\N\ must not be allowed to float.", 4 GND (power) "Ground. Should be tied to a ground plane for best performance.", 5 VIN (power) "Input Supply Voltage. VIN should be bypassed with a 2.2uF low ESR capacitor.", 6 VOUT (power) "Regulated Output Voltage. For best performance, VOUT should be bypassed with a 2.2uF or higher low ESR capacitor as close as possible to the pin.", 7 EP (power) "Ground. The exposed pad must be soldered to PCB ground to provide electrical contact and optimum thermal performance."

## LTC3221EDC-3.3#TRMPBF
designator U?
Micropower, Regulated Charge Pump, 1.8 to 4.4 V Vin, 3.3 V Vout, 6-pin SON (DC6-6), -40 to 85 degC, Pb-Free, Mini Tape and Reel; Manufacturer: Linear Technology; PartNumber: LTC3221EDC-3.3#TRMPBF; Frequency(kHz): 600; Isupply(mA): 0.008; Max Iout(mA): 60; Vin Max(V): 4.4; Vin Min(V): 1.8; Voutput: 3.3V; PackageVersion: Rev. B, 06/2010; PackageReference: DC6-6; PackageDescription: 6-Pin Plastic DFN, Body 2 x 2 mm, Pitch 0.5 mm; Supplier 1: Digi-Key; Supplier Part Number 1: LTC3221EDC-3.3#TRMPBF-ND; Supplier 2: Newark; Supplier Part Number 2: 56M7438; Packing: Mini Tape and Reel; RoHS: TRUE; Mounting Technology: Surface Mount; Code_JEDEC: MO-229; ComponentLink1Description: Manufacturer URL; ComponentLink1URL: http://www.linear.com/; ComponentLink2Description: Datasheet; ComponentLink2URL: http://cds.linear.com/docs/en/datasheet/3221f.pdf; ComponentLink3Description: Package Specification; ComponentLink3URL: http://cds.linear.com/docs/en/packaging/DFN_6_05-08-1703.pdf
footprint LT-DC6-6_V (SON, 6-Leads, Body 2x2mm, Pitch 0.5mm, Thermal Pad 1.42x0.61mm)
pins: 1 C+ "Flying Capacitor Positive Terminal.", 2 C- "Flying Capacitor Negative Terminal.", 3 ~{SHDN} (in) "Active Low Shutdown Input. A low on S\H\D\N\ disables the LTC3221-3.3/ LTC3221-5. S\H\D\N\ must not be allowed to float.", 4 GND (power) "Ground. Should be tied to a ground plane for best performance.", 5 VIN (power) "Input Supply Voltage. VIN should be bypassed with a 2.2uF low ESR capacitor.", 6 VOUT (power) "Regulated Output Voltage. For best performance, VOUT should be bypassed with a 2.2uF or higher low ESR capacitor as close as possible to the pin.", 7 EP (power) "Ground. The exposed pad must be soldered to PCB ground to provide electrical contact and optimum thermal performance."

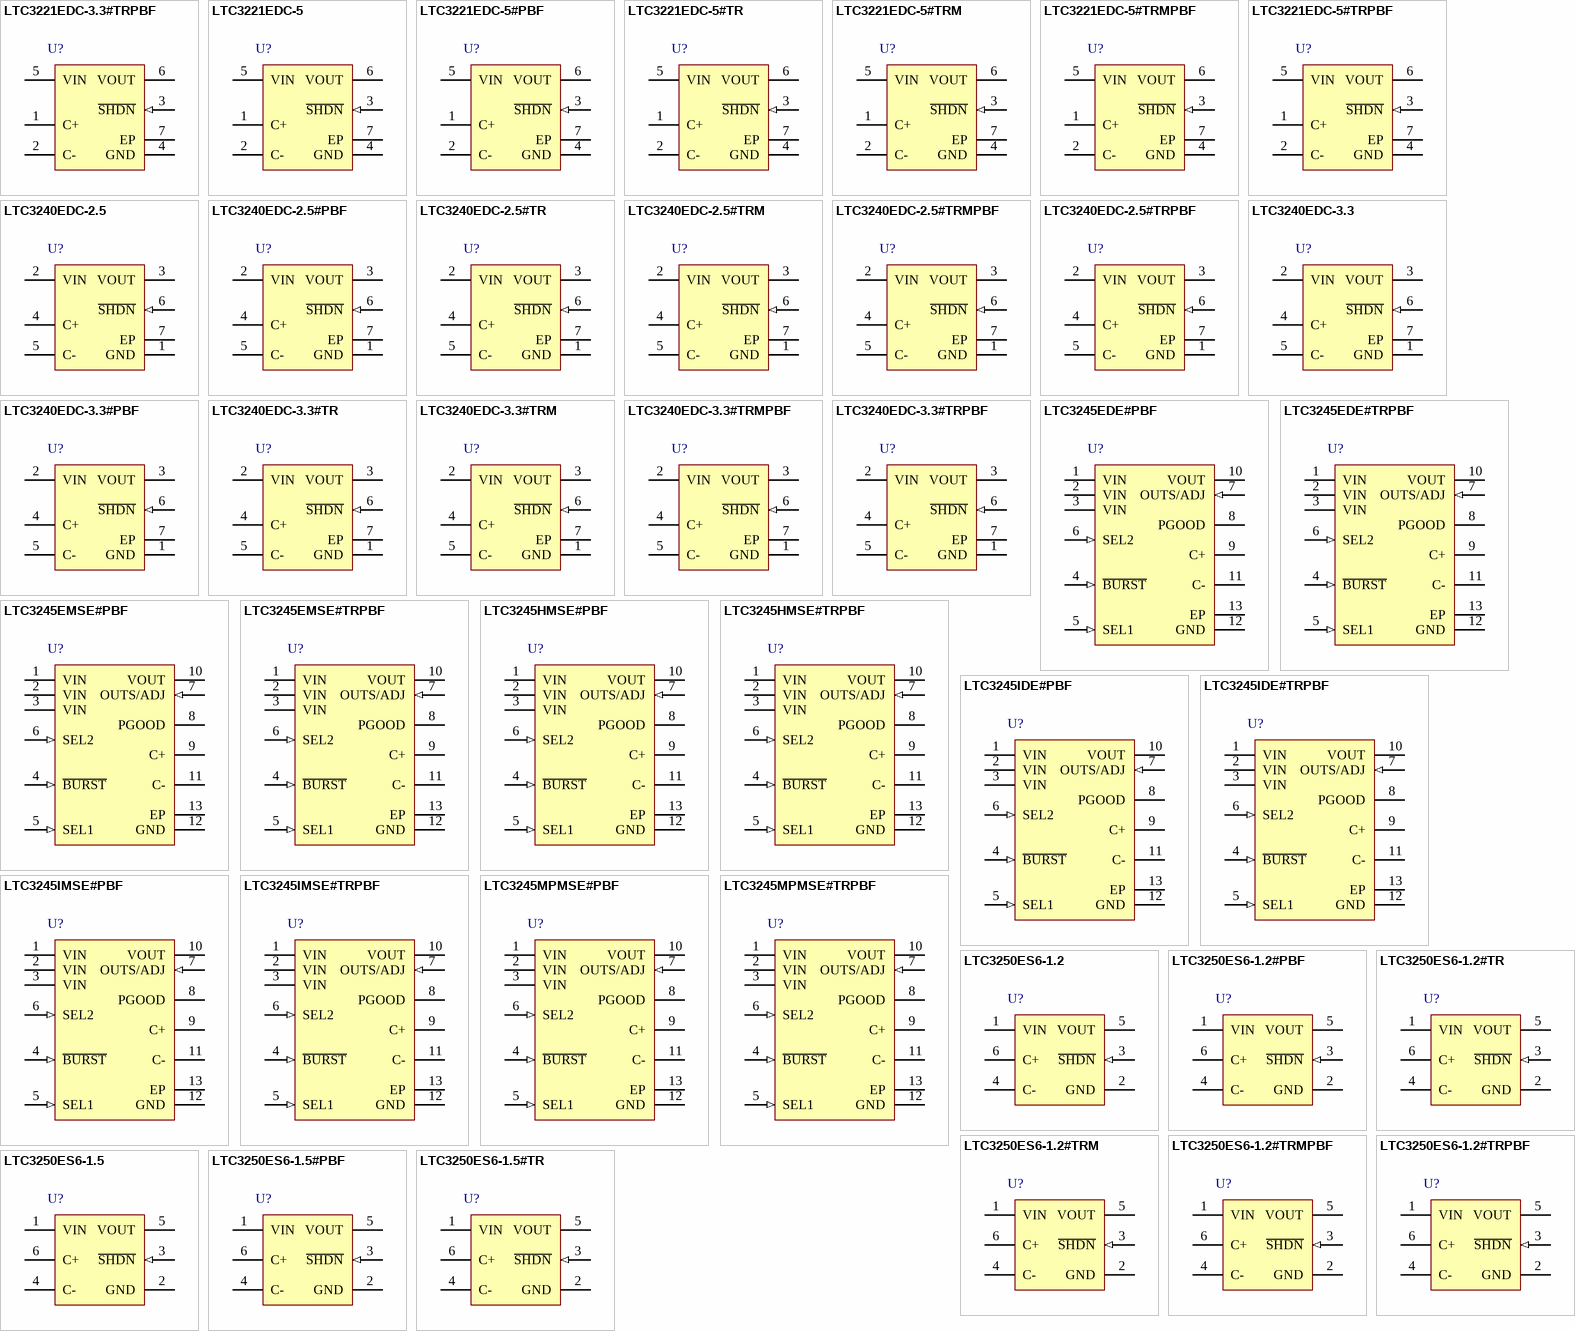
[diagram p14: symbols LTC3221EDC-3.3#TRPBF to LTC3250ES6-1.5#TR]

## LTC3221EDC-3.3#TRPBF
designator U?
Micropower, Regulated Charge Pump, 1.8 to 4.4 V Vin, 3.3 V Vout, 6-pin SON (DC6-6), -40 to 85 degC, Pb-Free, Tape and Reel; Manufacturer: Linear Technology; PartNumber: LTC3221EDC-3.3#TRPBF; Frequency(kHz): 600; Isupply(mA): 0.008; Max Iout(mA): 60; Vin Max(V): 4.4; Vin Min(V): 1.8; Voutput: 3.3V; PackageVersion: Rev. B, 06/2010; PackageReference: DC6-6; PackageDescription: 6-Pin Plastic DFN, Body 2 x 2 mm, Pitch 0.5 mm; Supplier 1: Digi-Key; Supplier Part Number 1: LTC3221EDC-3.3#TRPBF-ND; Supplier 2: Newark; Supplier Part Number 2: 56M7439; Packing: Tape and Reel; RoHS: TRUE; Mounting Technology: Surface Mount; Code_JEDEC: MO-229; ComponentLink1Description: Manufacturer URL; ComponentLink1URL: http://www.linear.com/; ComponentLink2Description: Datasheet; ComponentLink2URL: http://cds.linear.com/docs/en/datasheet/3221f.pdf; ComponentLink3Description: Package Specification; ComponentLink3URL: http://cds.linear.com/docs/en/packaging/DFN_6_05-08-1703.pdf
footprint LT-DC6-6_V (SON, 6-Leads, Body 2x2mm, Pitch 0.5mm, Thermal Pad 1.42x0.61mm)
pins: 1 C+ "Flying Capacitor Positive Terminal.", 2 C- "Flying Capacitor Negative Terminal.", 3 ~{SHDN} (in) "Active Low Shutdown Input. A low on S\H\D\N\ disables the LTC3221-3.3/ LTC3221-5. S\H\D\N\ must not be allowed to float.", 4 GND (power) "Ground. Should be tied to a ground plane for best performance.", 5 VIN (power) "Input Supply Voltage. VIN should be bypassed with a 2.2uF low ESR capacitor.", 6 VOUT (power) "Regulated Output Voltage. For best performance, VOUT should be bypassed with a 2.2uF or higher low ESR capacitor as close as possible to the pin.", 7 EP (power) "Ground. The exposed pad must be soldered to PCB ground to provide electrical contact and optimum thermal performance."

## LTC3221EDC-5
designator U?
Micropower, Regulated Charge Pump, 2.7 to 5.5 V Vin, 5 V Vout, 6-pin SON (DC6-6), -40 to 85 degC; Manufacturer: Linear Technology; PartNumber: LTC3221EDC-5; Frequency(kHz): 600; Isupply(mA): 0.008; Max Iout(mA): 60; Vin Max(V): 5.5; Vin Min(V): 2.7; Voutput: 5V; PackageVersion: Rev. B, 06/2010; PackageReference: DC6-6; PackageDescription: 6-Pin Plastic DFN, Body 2 x 2 mm, Pitch 0.5 mm; RoHS: FALSE; Mounting Technology: Surface Mount; Code_JEDEC: MO-229; ComponentLink1Description: Manufacturer URL; ComponentLink1URL: http://www.linear.com/; ComponentLink2Description: Datasheet; ComponentLink2URL: http://cds.linear.com/docs/en/datasheet/3221f.pdf; ComponentLink3Description: Package Specification; ComponentLink3URL: http://cds.linear.com/docs/en/packaging/DFN_6_05-08-1703.pdf
footprint LT-DC6-6_V (SON, 6-Leads, Body 2x2mm, Pitch 0.5mm, Thermal Pad 1.42x0.61mm)
pins: 1 C+ "Flying Capacitor Positive Terminal.", 2 C- "Flying Capacitor Negative Terminal.", 3 ~{SHDN} (in) "Active Low Shutdown Input. A low on S\H\D\N\ disables the LTC3221-3.3/ LTC3221-5. S\H\D\N\ must not be allowed to float.", 4 GND (power) "Ground. Should be tied to a ground plane for best performance.", 5 VIN (power) "Input Supply Voltage. VIN should be bypassed with a 2.2uF low ESR capacitor.", 6 VOUT (power) "Regulated Output Voltage. For best performance, VOUT should be bypassed with a 2.2uF or higher low ESR capacitor as close as possible to the pin.", 7 EP (power) "Ground. The exposed pad must be soldered to PCB ground to provide electrical contact and optimum thermal performance."

## LTC3221EDC-5#PBF
designator U?
Micropower, Regulated Charge Pump, 2.7 to 5.5 V Vin, 5 V Vout, 6-pin SON (DC6-6), -40 to 85 degC, Pb-Free; Manufacturer: Linear Technology; PartNumber: LTC3221EDC-5#PBF; Frequency(kHz): 600; Isupply(mA): 0.008; Max Iout(mA): 60; Vin Max(V): 5.5; Vin Min(V): 2.7; Voutput: 5V; PackageVersion: Rev. B, 06/2010; PackageReference: DC6-6; PackageDescription: 6-Pin Plastic DFN, Body 2 x 2 mm, Pitch 0.5 mm; Supplier 1: Farnell; Supplier Part Number 1: 2295024; Supplier 2: Newark; Supplier Part Number 2: 78T3165; RoHS: TRUE; Mounting Technology: Surface Mount; Code_JEDEC: MO-229; ComponentLink1Description: Manufacturer URL; ComponentLink1URL: http://www.linear.com/; ComponentLink2Description: Datasheet; ComponentLink2URL: http://cds.linear.com/docs/en/datasheet/3221f.pdf; ComponentLink3Description: Package Specification; ComponentLink3URL: http://cds.linear.com/docs/en/packaging/DFN_6_05-08-1703.pdf
footprint LT-DC6-6_V (SON, 6-Leads, Body 2x2mm, Pitch 0.5mm, Thermal Pad 1.42x0.61mm)
pins: 1 C+ "Flying Capacitor Positive Terminal.", 2 C- "Flying Capacitor Negative Terminal.", 3 ~{SHDN} (in) "Active Low Shutdown Input. A low on S\H\D\N\ disables the LTC3221-3.3/ LTC3221-5. S\H\D\N\ must not be allowed to float.", 4 GND (power) "Ground. Should be tied to a ground plane for best performance.", 5 VIN (power) "Input Supply Voltage. VIN should be bypassed with a 2.2uF low ESR capacitor.", 6 VOUT (power) "Regulated Output Voltage. For best performance, VOUT should be bypassed with a 2.2uF or higher low ESR capacitor as close as possible to the pin.", 7 EP (power) "Ground. The exposed pad must be soldered to PCB ground to provide electrical contact and optimum thermal performance."

## LTC3221EDC-5#TR
designator U?
Micropower, Regulated Charge Pump, 2.7 to 5.5 V Vin, 5 V Vout, 6-pin SON (DC6-6), -40 to 85 degC, Tape and Reel; Manufacturer: Linear Technology; PartNumber: LTC3221EDC-5#TR; Frequency(kHz): 600; Isupply(mA): 0.008; Max Iout(mA): 60; Vin Max(V): 5.5; Vin Min(V): 2.7; Voutput: 5V; PackageVersion: Rev. B, 06/2010; PackageReference: DC6-6; PackageDescription: 6-Pin Plastic DFN, Body 2 x 2 mm, Pitch 0.5 mm; Packing: Tape and Reel; RoHS: FALSE; Mounting Technology: Surface Mount; Code_JEDEC: MO-229; ComponentLink1Description: Manufacturer URL; ComponentLink1URL: http://www.linear.com/; ComponentLink2Description: Datasheet; ComponentLink2URL: http://cds.linear.com/docs/en/datasheet/3221f.pdf; ComponentLink3Description: Package Specification; ComponentLink3URL: http://cds.linear.com/docs/en/packaging/DFN_6_05-08-1703.pdf
footprint LT-DC6-6_V (SON, 6-Leads, Body 2x2mm, Pitch 0.5mm, Thermal Pad 1.42x0.61mm)
pins: 1 C+ "Flying Capacitor Positive Terminal.", 2 C- "Flying Capacitor Negative Terminal.", 3 ~{SHDN} (in) "Active Low Shutdown Input. A low on S\H\D\N\ disables the LTC3221-3.3/ LTC3221-5. S\H\D\N\ must not be allowed to float.", 4 GND (power) "Ground. Should be tied to a ground plane for best performance.", 5 VIN (power) "Input Supply Voltage. VIN should be bypassed with a 2.2uF low ESR capacitor.", 6 VOUT (power) "Regulated Output Voltage. For best performance, VOUT should be bypassed with a 2.2uF or higher low ESR capacitor as close as possible to the pin.", 7 EP (power) "Ground. The exposed pad must be soldered to PCB ground to provide electrical contact and optimum thermal performance."

## LTC3221EDC-5#TRM
designator U?
Micropower, Regulated Charge Pump, 2.7 to 5.5 V Vin, 5 V Vout, 6-pin SON (DC6-6), -40 to 85 degC, Mini Tape and Reel; Manufacturer: Linear Technology; PartNumber: LTC3221EDC-5#TRM; Frequency(kHz): 600; Isupply(mA): 0.008; Max Iout(mA): 60; Vin Max(V): 5.5; Vin Min(V): 2.7; Voutput: 5V; PackageVersion: Rev. B, 06/2010; PackageReference: DC6-6; PackageDescription: 6-Pin Plastic DFN, Body 2 x 2 mm, Pitch 0.5 mm; Packing: Mini Tape and Reel; RoHS: FALSE; Mounting Technology: Surface Mount; Code_JEDEC: MO-229; ComponentLink1Description: Manufacturer URL; ComponentLink1URL: http://www.linear.com/; ComponentLink2Description: Datasheet; ComponentLink2URL: http://cds.linear.com/docs/en/datasheet/3221f.pdf; ComponentLink3Description: Package Specification; ComponentLink3URL: http://cds.linear.com/docs/en/packaging/DFN_6_05-08-1703.pdf
footprint LT-DC6-6_V (SON, 6-Leads, Body 2x2mm, Pitch 0.5mm, Thermal Pad 1.42x0.61mm)
pins: 1 C+ "Flying Capacitor Positive Terminal.", 2 C- "Flying Capacitor Negative Terminal.", 3 ~{SHDN} (in) "Active Low Shutdown Input. A low on S\H\D\N\ disables the LTC3221-3.3/ LTC3221-5. S\H\D\N\ must not be allowed to float.", 4 GND (power) "Ground. Should be tied to a ground plane for best performance.", 5 VIN (power) "Input Supply Voltage. VIN should be bypassed with a 2.2uF low ESR capacitor.", 6 VOUT (power) "Regulated Output Voltage. For best performance, VOUT should be bypassed with a 2.2uF or higher low ESR capacitor as close as possible to the pin.", 7 EP (power) "Ground. The exposed pad must be soldered to PCB ground to provide electrical contact and optimum thermal performance."

## LTC3221EDC-5#TRMPBF
designator U?
Micropower, Regulated Charge Pump, 2.7 to 5.5 V Vin, 5 V Vout, 6-pin SON (DC6-6), -40 to 85 degC, Pb-Free, Mini Tape and Reel; Manufacturer: Linear Technology; PartNumber: LTC3221EDC-5#TRMPBF; Frequency(kHz): 600; Isupply(mA): 0.008; Max Iout(mA): 60; Vin Max(V): 5.5; Vin Min(V): 2.7; Voutput: 5V; PackageVersion: Rev. B, 06/2010; PackageReference: DC6-6; PackageDescription: 6-Pin Plastic DFN, Body 2 x 2 mm, Pitch 0.5 mm; Supplier 1: Digi-Key; Supplier Part Number 1: LTC3221EDC-5#TRMPBFTR-ND; Supplier 2: Digi-Key; Supplier Part Number 2: LTC3221EDC-5#TRMPBFCT-ND; Supplier 3: Digi-Key; Supplier Part Number 3: LTC3221EDC-5#TRMPBFDKR-ND; Supplier 4: Newark; Supplier Part Number 4: 56M7442; Packing: Mini Tape and Reel; RoHS: TRUE; Mounting Technology: Surface Mount; Code_JEDEC: MO-229; ComponentLink1Description: Manufacturer URL; ComponentLink1URL: http://www.linear.com/; ComponentLink2Description: Datasheet; ComponentLink2URL: http://cds.linear.com/docs/en/datasheet/3221f.pdf; ComponentLink3Description: Package Specification; ComponentLink3URL: http://cds.linear.com/docs/en/packaging/DFN_6_05-08-1703.pdf
footprint LT-DC6-6_V (SON, 6-Leads, Body 2x2mm, Pitch 0.5mm, Thermal Pad 1.42x0.61mm)
pins: 1 C+ "Flying Capacitor Positive Terminal.", 2 C- "Flying Capacitor Negative Terminal.", 3 ~{SHDN} (in) "Active Low Shutdown Input. A low on S\H\D\N\ disables the LTC3221-3.3/ LTC3221-5. S\H\D\N\ must not be allowed to float.", 4 GND (power) "Ground. Should be tied to a ground plane for best performance.", 5 VIN (power) "Input Supply Voltage. VIN should be bypassed with a 2.2uF low ESR capacitor.", 6 VOUT (power) "Regulated Output Voltage. For best performance, VOUT should be bypassed with a 2.2uF or higher low ESR capacitor as close as possible to the pin.", 7 EP (power) "Ground. The exposed pad must be soldered to PCB ground to provide electrical contact and optimum thermal performance."

## LTC3221EDC-5#TRPBF
designator U?
Micropower, Regulated Charge Pump, 2.7 to 5.5 V Vin, 5 V Vout, 6-pin SON (DC6-6), -40 to 85 degC, Pb-Free, Tape and Reel; Manufacturer: Linear Technology; PartNumber: LTC3221EDC-5#TRPBF; Frequency(kHz): 600; Isupply(mA): 0.008; Max Iout(mA): 60; Vin Max(V): 5.5; Vin Min(V): 2.7; Voutput: 5V; PackageVersion: Rev. B, 06/2010; PackageReference: DC6-6; PackageDescription: 6-Pin Plastic DFN, Body 2 x 2 mm, Pitch 0.5 mm; Supplier 1: Digi-Key; Supplier Part Number 1: LTC3221EDC-5#TRPBF-ND; Packing: Tape and Reel; RoHS: TRUE; Mounting Technology: Surface Mount; Code_JEDEC: MO-229; ComponentLink1Description: Manufacturer URL; ComponentLink1URL: http://www.linear.com/; ComponentLink2Description: Datasheet; ComponentLink2URL: http://cds.linear.com/docs/en/datasheet/3221f.pdf; ComponentLink3Description: Package Specification; ComponentLink3URL: http://cds.linear.com/docs/en/packaging/DFN_6_05-08-1703.pdf
footprint LT-DC6-6_V (SON, 6-Leads, Body 2x2mm, Pitch 0.5mm, Thermal Pad 1.42x0.61mm)
pins: 1 C+ "Flying Capacitor Positive Terminal.", 2 C- "Flying Capacitor Negative Terminal.", 3 ~{SHDN} (in) "Active Low Shutdown Input. A low on S\H\D\N\ disables the LTC3221-3.3/ LTC3221-5. S\H\D\N\ must not be allowed to float.", 4 GND (power) "Ground. Should be tied to a ground plane for best performance.", 5 VIN (power) "Input Supply Voltage. VIN should be bypassed with a 2.2uF low ESR capacitor.", 6 VOUT (power) "Regulated Output Voltage. For best performance, VOUT should be bypassed with a 2.2uF or higher low ESR capacitor as close as possible to the pin.", 7 EP (power) "Ground. The exposed pad must be soldered to PCB ground to provide electrical contact and optimum thermal performance."